# Altium footprint library CR-0603.PcbLib: 1 footprints
Each footprint in its own frame and in the unit in brackets; x right, y up, seen from the top. Pads: shape width x height; smd on the part's side, far side on the other; paste and mask are expansions set on the pad; w line width, h text height; cw(c..) or ccw(c..) is an arc to the next point about the centre after c.
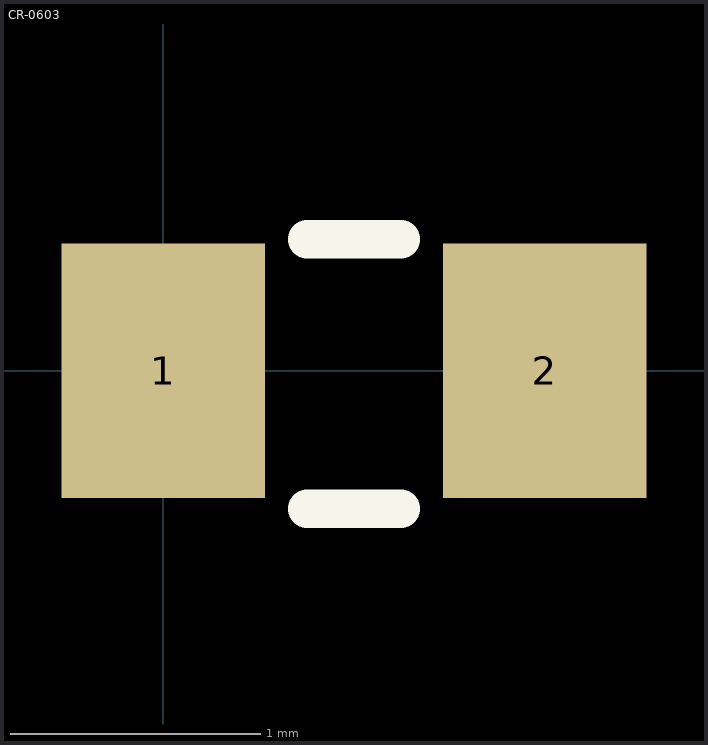
[diagram p0: the footprint, top view; thin cyan lines are the x and y axes]

## CR-0603 [mil]
pads (2):
  rect 32x40 smd: 1(0,0) 2(60,0)
Top Overlay:
  lines w6: 22.64,-21.65 37.4,-21.65 ; 22.64,20.67 37.4,20.67
3D body "SMD RLC-0603.STEP": height 17.01, standoff -0.7, extent -1.93,-16.63 62.64,16.83